# Altium schematic symbol library 粉墨.SchLib: 1 symbol
Pins are listed as number, name and electrical type; pins without a type are passive.

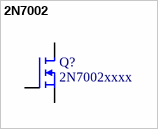
[diagram p0: symbol 2N7002]

## 2N7002
designator Q?, comment 2N7002xxxx
N-Channel MOSFET
footprint SOT-23 (SOT-23-3)
pins: 1 G, 2 S, 3 D
1 alternate drawing of the same symbol